# EAGLE library part 5WAY_SW (library CYCFI_switch)
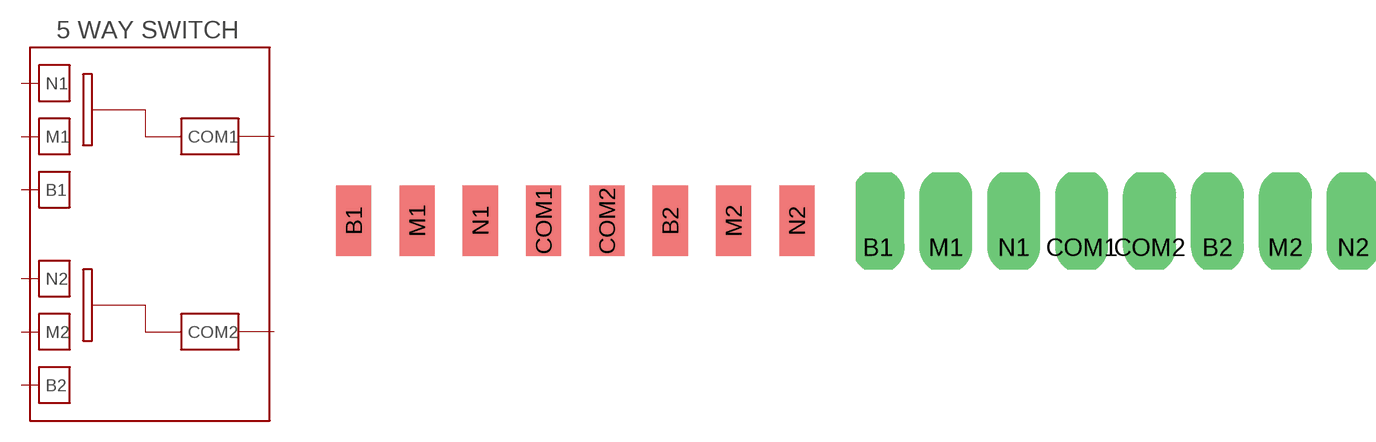
[diagram p4: symbol with the pads of 5WAY_SW; footprints 5WAY_SW, 5WAY_SW_CASTELLATED]

Designator prefix -

## 5WAY_SW  [5WAY_SW]
B1  B1
B2  B2
COM1  COM1
COM2  COM2
M1  M1
M2  M2
N1  N1
N2  N2

## 5WAY_SW_CASTELLATED  [5WAY_SW_CASTELLATED]
Pads as for 5WAY_SW

## Footprint 5WAY_SW (pad centres in mm)
smd 2.54 x 5.08: B1 -15.995,0; B2 6.855,0; COM1 -2.285,0; COM2 2.285,0; M1 -11.425,0; M2 11.425,0; N1 -6.855,0; N2 15.995,0

## Footprint 5WAY_SW_CASTELLATED (pad centres in mm)
drill 2.54 offset: B1 -15.995,0; B2 6.855,0; COM1 -2.285,0; COM2 2.285,0; M1 -11.425,0; M2 11.425,0; N1 -6.855,0; N2 15.995,0